# EAGLE library part 2060-403/998-404 (library con-wago_2060)
Serie 2060, SMD-Leiterplattenklemme mit Betätigungsdrückern im Gurt 3-polig / Series 2060, SMD terminal block with push-buttons in tape-and-reel packing 3-pole Polzahl / Pole No.: 3 Rastermaß / Pitch: 4 mm Bemessungsspannung / Rated Voltage: 160 V Nennstrom / Nominal Current: 9 A Leiterquerschnitt / Conductor Size: 0.2 - 0.75 mm2 Anschlusstechnik / Connection Technology: CAGE CLAMP® S Leitereinführung (zur Platine) / Conductor entry angle (to PCB): 0 ° Farbe / Color: lichtgrau / light gray Stand: 01.01.2014. Die jeweils aktuellen Daten zu diesem Artikel finden Sie in unserem Produktkatalog, den Sie unter www.wago.com einsehen können. As of: 01/01/2014. Please find the newest data for this article in our product catalogue, which can be viewed under www.wago.com.
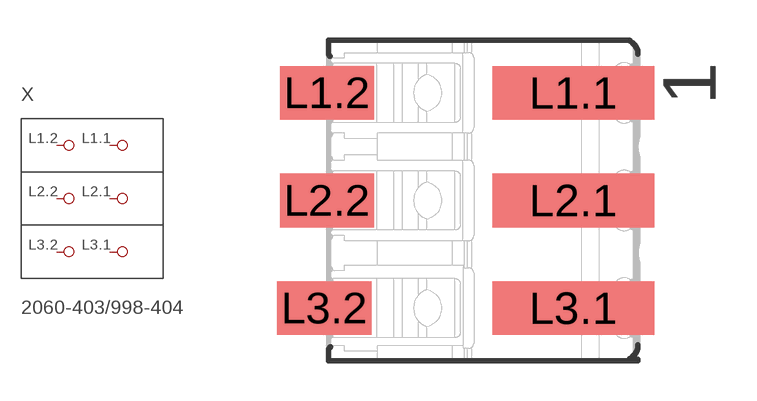
[diagram p0: symbol with the pads of P-2060-403/998-404; footprint P-2060-403/998-404]

Designator prefix X

## 2060-403/998-404  [P-2060-403/998-404]
L1.1  P1.1
L1.2  P1.2
L2.1  P2.1
L2.2  P2.2
L3.1  P3.1
L3.2  P3.2

## Footprint P-2060-403/998-404 (pad centres in mm)
smd 6 x 2: L1.1 4.625,4; L2.1 4.625,0; L3.1 4.625,-4
smd 3.5 x 2: L1.2 -4.525,4; L2.2 -4.525,0; L3.2 -4.625,-4